# EAGLE library part DFPLAYERMINI (library chinese-modules)
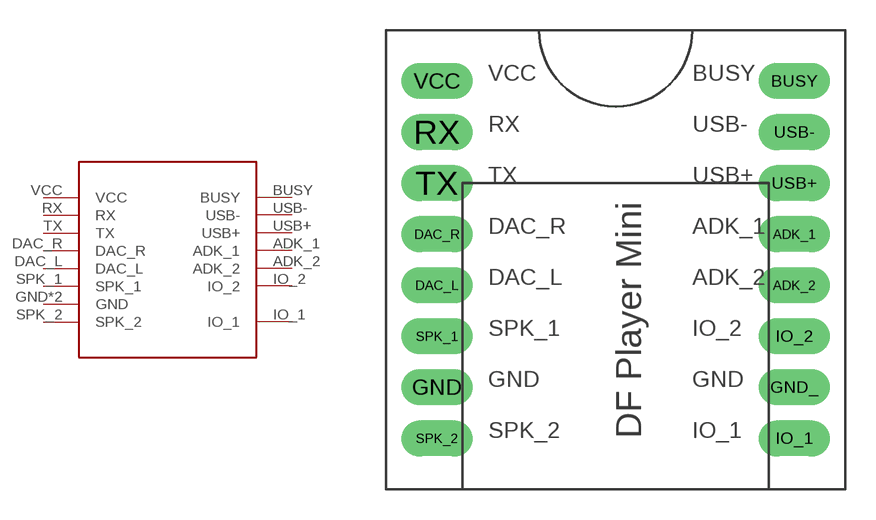
[diagram p3: symbol with the pads of DFPLAYERMINI; footprint DFPLAYERMINI]

Designator prefix -

## DFPLAYERMINI  [DFPLAYERMINI]
ADK_1  ADK_1
ADK_2  ADK_2
BUSY  BUSY
DAC_L  DAC_L
DAC_R  DAC_R
GND  GND
GND_  GND
IO_1  IO_1
IO_2  IO_2
RX  RX
SPK_1  SPK_1
SPK_2  SPK_2
TX  TX
USB+  USB+
USB-  USB-
VCC  VCC

## Footprint DFPLAYERMINI (pad centres in mm)
drill 1 pad 1.778 long: ADK_1 20.32,12.7; ADK_2 20.32,10.16; BUSY 20.32,20.32; DAC_L 2.54,10.16; DAC_R 2.54,12.7; GND 2.54,5.08; GND_ 20.32,5.08; IO_1 20.32,2.54; IO_2 20.32,7.62; RX 2.54,17.78; SPK_1 2.54,7.62; SPK_2 2.54,2.54; TX 2.54,15.24; USB+ 20.32,15.24; USB- 20.32,17.78; VCC 2.54,20.32